# Altium footprint library PcbLib.PcbLib: 43 footprints (part 2 of 3)
Each footprint in its own frame and in the unit in brackets; x right, y up, seen from the top. Pads: shape width x height; smd on the part's side, far side on the other; paste and mask are expansions set on the pad; w line width, h text height; cw(c..) or ccw(c..) is an arc to the next point about the centre after c.
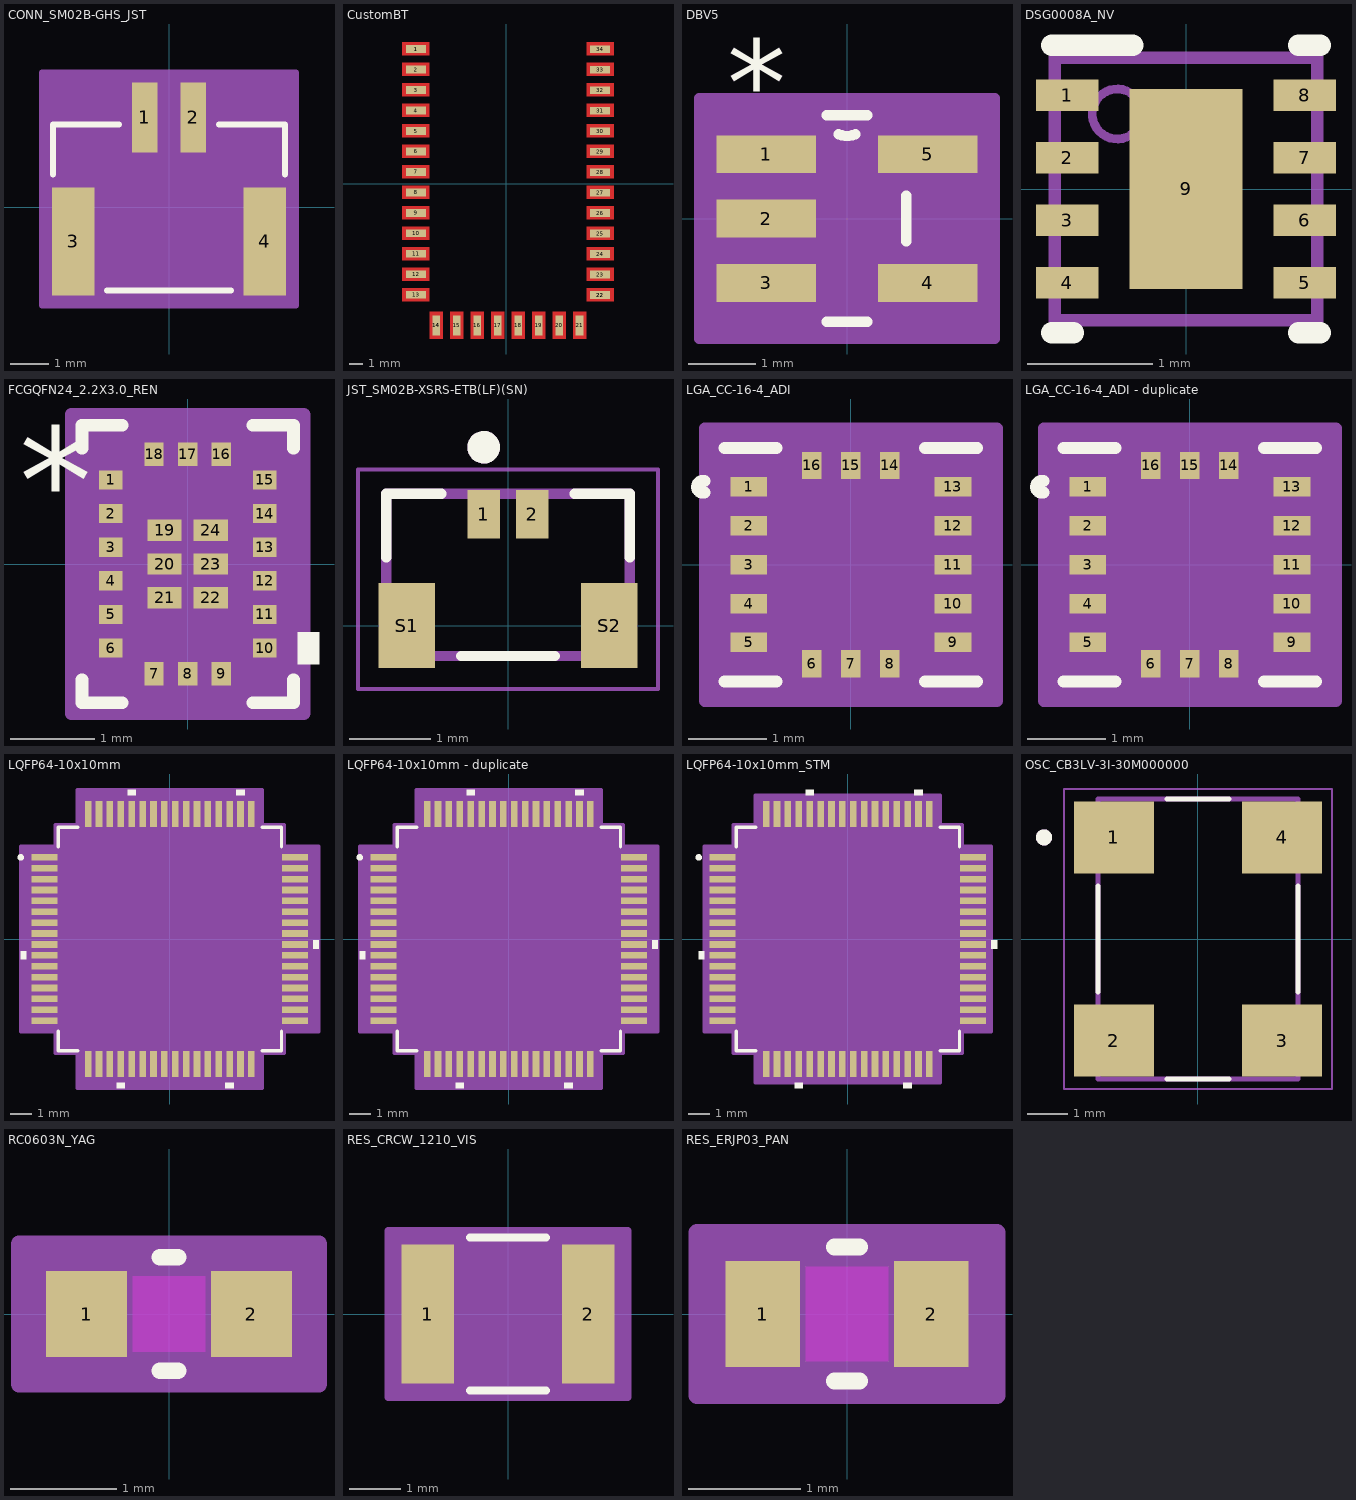
[diagram p1: the footprints below, top view; thin cyan lines are the x and y axes]

## CONN_SM02B-GHS_JST [mil]
pads (4):
  rect 26x71 smd paste+0 mask+0: 1(-24.61,91.5) 2(24.61,91.5)
  rect 43x110 smd paste+0 mask+0: 3(-97.44,-34.48) 4(97.44,-34.48)
Top Overlay:
  lines w6: -118,33.62 -118,84.5 -50.71,84.5 ; -62.84,-84.5 62.84,-84.5 ; 50.71,84.5 118,84.5 118,33.62
Mechanical 13:
  circle w20: c-24.61,16.5 r15
  lines w1: -113,-79.5 -113,79.5 113,79.5 113,-79.5 -113,-79.5
Mechanical 15:
  region: 128.94,137 -128.94,137 -128.94,-99.48 128.94,-99.48
  lines w6: -128.94,-99.48 128.94,-99.48 128.94,137 -128.94,137 -128.94,-99.48

## CustomBT [mil]
pads (37):
  rect 58x22 smd paste-99999 mask-29: 1(-259.45,388.19) 1(-259.45,388.19) 2(-259.45,329.13) 3(-259.45,270.08) 4(-259.45,211.02) 5(-259.45,151.97) 6(-259.45,92.91) 7(-259.45,33.86) 8(-259.45,-25.2) 9(-259.45,-84.25) 10(-259.45,-143.31) 11(-259.45,-202.36) 12(-259.45,-261.42) 13(-259.45,-320.47) 22(270.87,-321.26) 22(270.99,-320.82) 23(270.99,-261.77) 24(270.99,-202.71) 25(270.99,-143.66) 26(270.99,-84.6) 27(270.99,-25.54) 28(270.99,33.51) 29(270.99,92.57) 30(270.99,151.62) 31(270.99,210.68) 32(270.99,269.73) 33(270.99,328.79) 34(270.99,387.84)
  rect 22x58 smd paste-29 mask-29: 14(-201.57,-408.66) 14(-201.57,-408.66) 15(-142.52,-408.66) 16(-83.46,-408.66) 17(-24.41,-408.66) 18(34.65,-408.66) 19(93.7,-408.66) 20(152.76,-408.66) 21(211.81,-408.66)
Top Layer:
  rectangle: -299.61,-339.37 -220.87,-300
  rectangle: -220.87,-447.64 -181.5,-368.9
  rectangle: -161.81,-447.64 -122.44,-368.9
  rectangle: -102.76,-447.64 -63.39,-368.9
  rectangle: -43.7,-447.64 -4.33,-368.9
  rectangle: 15.35,-447.64 54.72,-368.9
  rectangle: 74.41,-447.64 113.78,-368.9
  rectangle: 133.46,-447.64 172.83,-368.9
  rectangle: 192.52,-447.64 231.89,-368.9
  rectangle: 231.89,-280.31 310.63,-240.94
  rectangle: 231.89,251.18 310.63,290.55
  rectangle: 231.89,192.13 310.63,231.5
  rectangle: 231.89,133.07 310.63,172.44
  rectangle: 231.89,-339.37 310.63,-300
  rectangle: 231.89,369.29 310.63,408.66
  rectangle: 231.89,310.24 310.63,349.61
  rectangle: 231.89,-103.15 310.63,-63.78
  rectangle: 231.89,-162.2 310.63,-122.83
  rectangle: 231.89,-221.26 310.63,-181.89
  rectangle: 231.89,74.02 310.63,113.39
  rectangle: 231.89,14.96 310.63,54.33
  rectangle: 231.89,-44.09 310.63,-4.72
  rectangle: -299.61,369.29 -220.87,408.66
  rectangle: -299.61,310.24 -220.87,349.61
  rectangle: -299.61,251.18 -220.87,290.55
  rectangle: -299.61,192.13 -220.87,231.5
  rectangle: -299.61,133.07 -220.87,172.44
  rectangle: -299.61,74.02 -220.87,113.39
  rectangle: -299.61,14.96 -220.87,54.33
  rectangle: -299.61,-44.09 -220.87,-4.72
  rectangle: -299.61,-103.15 -220.87,-63.78
  rectangle: -299.61,-162.2 -220.87,-122.83
  rectangle: -299.61,-221.26 -220.87,-181.89
  rectangle: -299.61,-280.31 -220.87,-240.94

## DBV5 [mil]
pads (5):
  rect 58x22 smd paste-29 mask-29: 1(-47,37.4) 2(-47,0) 3(-47,-37.4) 4(47,-37.4) 5(47,37.4)
Top Overlay:
  lines w6: -11.91,-60 11.91,-60 ; -11.91,60 11.91,60 ; -4.92,49.05 ccw(c0,60) 4.92,49.05 ; 34.5,-13.3 34.5,13.3
  text "*" at -69.5,54.4 h50
Mechanical 13:
  lines w0: -12,60 ccw(c0,60) 12,60
  lines w1: -59,-47.4 -34.5,-47.4 -34.5,-27.4 -59,-27.4 -59,-47.4 ; -59,-10 -34.5,-10 -34.5,10 -59,10 -59,-10 ; -59,27.4 -34.5,27.4 -34.5,47.4 -59,47.4 -59,27.4 ; -34.5,-60 -34.5,60 34.5,60 34.5,-60 -34.5,-60 ; 34.5,-47.4 59,-47.4 59,-27.4 34.5,-27.4 34.5,-47.4 ; 34.5,27.4 59,27.4 59,47.4 34.5,47.4 34.5,27.4
  text "*" at -69.5,54.4 h50
Mechanical 15:
  region: 86,-70 -86,-70 -86,70 86,70
  lines w6: -86,-70 86,-70 86,70 -86,70 -86,-70
3D body "DBV5.step": height 57.09, standoff 0, extent -59.02,-60 59.02,60

## DSG0008A_NV [mm]
pads (9):
  rect 0.5x0.25 smd paste+0 mask+0.051: 1(-0.95,0.75) 2(-0.95,0.25) 3(-0.95,-0.25) 4(-0.95,-0.75) 5(0.95,-0.75) 6(0.95,-0.25) 7(0.95,0.25) 8(0.95,0.75)
  rect 0.9x1.6 smd paste-0.45 mask+0.051: 9(0,0)
Top Overlay:
  lines w0.17: -1.075,-1.15 -0.9,-1.15 ; -1.075,1.15 -0.425,1.15 ; 0.9,-1.15 1.075,-1.15 ; 0.9,1.15 1.075,1.15
Top Paste:
  region: -0.449,-0.761 -0.45,-0.751 -0.45,-0.149 -0.449,-0.139 -0.446,-0.13 -0.442,-0.122 -0.436,-0.114 -0.428,-0.108 -0.42,-0.104 -0.411,-0.101 -0.401,-0.1 0.401,-0.1 0.411,-0.101 0.42,-0.104 0.428,-0.108 0.436,-0.114 0.442,-0.122 0.446,-0.13 0.449,-0.139 0.45,-0.149 0.45,-0.751 0.449,-0.761 0.446,-0.77 0.442,-0.778 0.436,-0.786 0.428,-0.792 0.42,-0.796 0.411,-0.799 0.401,-0.8 -0.401,-0.8 -0.411,-0.799 -0.42,-0.796 -0.428,-0.792 -0.436,-0.786 -0.442,-0.778 -0.446,-0.77
  region: -0.449,0.139 -0.45,0.149 -0.45,0.751 -0.449,0.761 -0.446,0.77 -0.442,0.778 -0.436,0.786 -0.428,0.792 -0.42,0.796 -0.411,0.799 -0.401,0.8 0.401,0.8 0.411,0.799 0.42,0.796 0.428,0.792 0.436,0.786 0.442,0.778 0.446,0.77 0.449,0.761 0.45,0.751 0.45,0.149 0.449,0.139 0.446,0.13 0.442,0.122 0.436,0.114 0.428,0.108 0.42,0.104 0.411,0.101 0.401,0.1 -0.401,0.1 -0.411,0.101 -0.42,0.104 -0.428,0.108 -0.436,0.114 -0.442,0.122 -0.446,0.13
Mechanical 13:
  circle w0.07: c-0.55,0.6 r0.2
  lines w0.1: -1.05,-1.05 1.05,-1.05 1.05,1.05 -1.05,1.05 -1.05,-1.05

## FCGQFN24_2.2X3.0_REN [mil]
pads (24):
  rect 11x9 smd paste+0 mask+0: 1(-36,39.37) 2(-36,23.62) 3(-36,7.87) 4(-36,-7.87) 5(-36,-23.62) 6(-36,-39.37) 10(36,-39.37) 11(36,-23.62) 12(36,-7.87) 13(36,7.87) 14(36,23.62) 15(36,39.37)
  rect 9x11 smd paste+0 mask+0: 7(-15.75,-51.5) 8(0,-51.5) 9(15.75,-51.5) 16(15.75,51.5) 17(0,51.5) 18(-15.75,51.5)
  rect 16x10 smd paste+0 mask+0: 19(-10.83,15.75) 20(-10.83,0) 21(-10.83,-15.75) 22(10.83,-15.75) 23(10.83,0) 24(10.83,15.75)
Top Overlay:
  region: 51.5,-31.87 61.5,-31.87 61.5,-46.87 51.5,-46.87
  lines w6: -49.5,-54.24 -49.5,-65 -30.62,-65 ; -49.5,54.24 -49.5,65 -30.62,65 ; 30.62,-65 49.5,-65 49.5,-54.24 ; 30.62,65 49.5,65 49.5,54.24
  text "*" at -79,14.37 h50
Mechanical 13:
  lines w1: -44.5,10 5.5,60 ; -44.5,-60 44.5,-60 44.5,60 -44.5,60 -44.5,-60 ; -44.5,-43.87 -44.5,-34.87 -41.5,-34.87 -41.5,-43.87 -44.5,-43.87 ; -44.5,-28.12 -44.5,-19.12 -41.5,-19.12 -41.5,-28.12 -44.5,-28.12 ; -44.5,-12.37 -44.5,-3.37 -41.5,-3.37 -41.5,-12.37 -44.5,-12.37 ; -44.5,3.37 -44.5,12.37 -41.5,12.37 -41.5,3.37 -44.5,3.37 ; -44.5,19.12 -44.5,28.12 -41.5,28.12 -41.5,19.12 -44.5,19.12 ; -44.5,34.87 -44.5,43.87 -41.5,43.87 -41.5,34.87 -44.5,34.87 ; -20.25,-60 -11.25,-60 -11.25,-57 -20.25,-57 -20.25,-60 ; -20.25,57 -11.25,57 -11.25,60 -20.25,60 -20.25,57 ; -4.5,-60 4.5,-60 4.5,-57 -4.5,-57 -4.5,-60 ; -4.5,57 4.5,57 4.5,60 -4.5,60 -4.5,57 ; 11.25,-60 20.25,-60 20.25,-57 11.25,-57 11.25,-60 ; 11.25,57 20.25,57 20.25,60 11.25,60 11.25,57 ; 41.5,-43.87 44.5,-43.87 44.5,-34.87 41.5,-34.87 41.5,-43.87 ; 41.5,-28.12 44.5,-28.12 44.5,-19.12 41.5,-19.12 41.5,-28.12 ; 41.5,-12.37 44.5,-12.37 44.5,-3.37 41.5,-3.37 41.5,-12.37 ; 41.5,3.37 44.5,3.37 44.5,12.37 41.5,12.37 41.5,3.37 ; 41.5,19.12 44.5,19.12 44.5,28.12 41.5,28.12 41.5,19.12 ; 41.5,34.87 44.5,34.87 44.5,43.87 41.5,43.87 41.5,34.87
  text "*" at -18,14.37 h50
Mechanical 15:
  region: -30.25,-70 -54.5,-70 -54.5,-53.87 -54.5,53.87 -54.5,70 -30.25,70 30.25,70 54.5,70 54.5,53.87 54.5,-53.87 54.5,-70 30.25,-70
  lines w6: -54.5,-70 -54.5,-53.87 -54.5,53.87 -54.5,70 -30.25,70 30.25,70 54.5,70 54.5,53.87 54.5,-53.87 54.5,-70 30.25,-70 -30.25,-70 -54.5,-70
3D body "FCGQFN24_22X30_REN.step": height 28.11, standoff 0, extent -44.49,-60 44.49,60

## JST_SM02B-XSRS-ETB(LF)(SN) [mm]
pads (4):
  rect 0.4x0.6 smd: 1(-0.3,1.375) 2(0.3,1.375)
  rect 0.7x1.05 smd: S1(-1.25,0) S2(1.25,0)
Top Overlay:
  circle w0.2: c-0.3,2.2 r0.1
  lines w0.127: -1.5,0.84 -1.5,1.625 -0.82,1.625 ; -0.58,-0.375 0.58,-0.375 ; 0.82,1.625 1.5,1.625 1.5,0.84
Mechanical 13:
  circle w0.2: c-0.3,2.2 r0.1
  lines w0.127: -1.5,-0.375 -1.5,1.625 1.5,1.625 1.5,-0.375 -1.5,-0.375
Mechanical 15:
  lines w0.05: -1.85,-0.78 -1.85,1.925 1.85,1.925 1.85,-0.78 -1.85,-0.78

## LGA_CC-16-4_ADI [mm]
pads (16):
  rect 0.475x0.25 smd paste+0 mask+0: 1(-1.313,1) 2(-1.313,0.5) 3(-1.313,0) 4(-1.313,-0.5) 5(-1.313,-1) 9(1.313,-1) 10(1.313,-0.5) 11(1.313,0) 12(1.313,0.5) 13(1.313,1)
  rect 0.25x0.35 smd paste+0 mask+0: 6(-0.5,-1.275) 7(0,-1.275) 8(0.5,-1.275) 14(0.5,1.275) 15(0,1.275) 16(-0.5,1.275)
Top Overlay:
  lines w0.152: -1.883,0.926 cw(c-1.902,1) -1.883,1.074 ; -1.625,-1.5 -0.954,-1.5 ; -1.625,1.5 -0.954,1.5 ; 0.954,-1.5 1.625,-1.5 ; 0.954,1.5 1.625,1.5
Mechanical 13:
  circle w0: c-1.902,1 r0.076
  lines w0: -0.271,1.5 ccw(c0,1.5) 0.271,1.5
  lines w0.025: -1.625,-1.5 -1.625,1.5 1.625,1.5 1.625,-1.5 -1.625,-1.5
Mechanical 15:
  region: 1.879,-1.754 -1.879,-1.754 -1.879,1.754 1.879,1.754
  lines w0.152: -1.879,-1.754 -1.879,1.754 1.879,1.754 1.879,-1.754 -1.879,-1.754
3D body "ADXL362BCCZ-RL7.step": height 1.14, standoff 0, extent -1.615,-1.53 1.635,1.47

## LGA_CC-16-4_ADI - duplicate [mm]
pads (16):
  rect 0.475x0.25 smd paste+0 mask+0: 1(-1.313,1) 2(-1.313,0.5) 3(-1.313,0) 4(-1.313,-0.5) 5(-1.313,-1) 9(1.313,-1) 10(1.313,-0.5) 11(1.313,0) 12(1.313,0.5) 13(1.313,1)
  rect 0.25x0.35 smd paste+0 mask+0: 6(-0.5,-1.275) 7(0,-1.275) 8(0.5,-1.275) 14(0.5,1.275) 15(0,1.275) 16(-0.5,1.275)
Top Overlay:
  lines w0.152: -1.883,0.926 cw(c-1.902,1) -1.883,1.074 ; -1.625,-1.5 -0.954,-1.5 ; -1.625,1.5 -0.954,1.5 ; 0.954,-1.5 1.625,-1.5 ; 0.954,1.5 1.625,1.5
Mechanical 13:
  circle w0: c-1.902,1 r0.076
  lines w0: -0.271,1.5 ccw(c0,1.5) 0.271,1.5
  lines w0.025: -1.625,-1.5 -1.625,1.5 1.625,1.5 1.625,-1.5 -1.625,-1.5
Mechanical 15:
  region: 1.879,-1.754 -1.879,-1.754 -1.879,1.754 1.879,1.754
  lines w0.152: -1.879,-1.754 -1.879,1.754 1.879,1.754 1.879,-1.754 -1.879,-1.754
3D body "ADXL362BCCZ-RL7.step": height 1.14, standoff 0, extent -1.605,-1.54 1.645,1.46

## LQFP64-10x10mm [mm]
pads (64):
  rect 1.194x0.305 smd paste+0 mask+0: 1(-5.75,3.75) 2(-5.75,3.25) 3(-5.75,2.75) 4(-5.75,2.25) 5(-5.75,1.75) 6(-5.75,1.25) 7(-5.75,0.75) 8(-5.75,0.25) 9(-5.75,-0.25) 10(-5.75,-0.75) 11(-5.75,-1.25) 12(-5.75,-1.75) 13(-5.75,-2.25) 14(-5.75,-2.75) 15(-5.75,-3.25) 16(-5.75,-3.75) 33(5.75,-3.75) 34(5.75,-3.25) 35(5.75,-2.75) 36(5.75,-2.25) 37(5.75,-1.75) 38(5.75,-1.25) 39(5.75,-0.75) 40(5.75,-0.25) 41(5.75,0.25) 42(5.75,0.75) 43(5.75,1.25) 44(5.75,1.75) 45(5.75,2.25) 46(5.75,2.75) 47(5.75,3.25) 48(5.75,3.75)
  rect 0.305x1.194 smd paste+0 mask+0: 17(-3.75,-5.75) 18(-3.25,-5.75) 19(-2.75,-5.75) 20(-2.25,-5.75) 21(-1.75,-5.75) 22(-1.25,-5.75) 23(-0.75,-5.75) 24(-0.25,-5.75) 25(0.25,-5.75) 26(0.75,-5.75) 27(1.25,-5.75) 28(1.75,-5.75) 29(2.25,-5.75) 30(2.75,-5.75) 31(3.25,-5.75) 32(3.75,-5.75) 49(3.75,5.75) 50(3.25,5.75) 51(2.75,5.75) 52(2.25,5.75) 53(1.75,5.75) 54(1.25,5.75) 55(0.75,5.75) 56(0.25,5.75) 57(-0.25,5.75) 58(-0.75,5.75) 59(-1.25,5.75) 60(-1.75,5.75) 61(-2.25,5.75) 62(-2.75,5.75) 63(-3.25,5.75) 64(-3.75,5.75)
Top Overlay:
  circle w0.152: c-6.851,3.75 r0.076
  region: -1.559,6.601 -1.94,6.601 -1.94,6.855 -1.559,6.855
  region: 3.441,6.601 3.06,6.601 3.06,6.855 3.441,6.855
  region: 6.601,-0.059 6.855,-0.059 6.855,-0.44 6.601,-0.44
  region: 2.94,-6.601 2.559,-6.601 2.559,-6.855 2.94,-6.855
  region: -2.06,-6.601 -2.441,-6.601 -2.441,-6.855 -2.06,-6.855
  region: -6.601,-0.56 -6.855,-0.56 -6.855,-0.941 -6.601,-0.941
  lines w0.152: -5.131,-4.234 -5.131,-5.131 -4.234,-5.131 ; -5.131,4.234 -5.131,5.131 -4.234,5.131 ; 4.234,-5.131 5.131,-5.131 5.131,-4.234 ; 4.234,5.131 5.131,5.131 5.131,4.234
Mechanical 13:
  circle w0: c-4.518,3.75 r0.076
  lines w0.025: -5.004,3.734 -3.734,5.004 ; -5.004,-5.004 -5.004,5.004 5.004,5.004 5.004,-5.004 -5.004,-5.004
Mechanical 15:
  region: -4.258,-5.258 -5.258,-5.258 -5.258,-4.258 -6.855,-4.258 -6.855,4.258 -5.258,4.258 -5.258,5.258 -4.258,5.258 -4.258,6.855 4.258,6.855 4.258,5.258 5.258,5.258 5.258,4.258 6.855,4.258 6.855,-4.258 5.258,-4.258 5.258,-5.258 4.258,-5.258 4.258,-6.855 -4.258,-6.855
  lines w0.152: -6.855,-4.258 -6.855,4.258 -5.258,4.258 -5.258,5.258 -4.258,5.258 -4.258,6.855 4.258,6.855 4.258,5.258 5.258,5.258 5.258,4.258 6.855,4.258 6.855,-4.258 5.258,-4.258 5.258,-5.258 4.258,-5.258 4.258,-6.855 -4.258,-6.855 -4.258,-5.258 -5.258,-5.258 -5.258,-4.258 -6.855,-4.258
3D body "LQFP64-10x10mm.step": height 1.6, standoff 0, extent -5.997,-5.997 5.997,5.997

## LQFP64-10x10mm - duplicate [mm]
pads (64):
  rect 1.194x0.305 smd paste+0 mask+0: 1(-5.75,3.75) 2(-5.75,3.25) 3(-5.75,2.75) 4(-5.75,2.25) 5(-5.75,1.75) 6(-5.75,1.25) 7(-5.75,0.75) 8(-5.75,0.25) 9(-5.75,-0.25) 10(-5.75,-0.75) 11(-5.75,-1.25) 12(-5.75,-1.75) 13(-5.75,-2.25) 14(-5.75,-2.75) 15(-5.75,-3.25) 16(-5.75,-3.75) 33(5.75,-3.75) 34(5.75,-3.25) 35(5.75,-2.75) 36(5.75,-2.25) 37(5.75,-1.75) 38(5.75,-1.25) 39(5.75,-0.75) 40(5.75,-0.25) 41(5.75,0.25) 42(5.75,0.75) 43(5.75,1.25) 44(5.75,1.75) 45(5.75,2.25) 46(5.75,2.75) 47(5.75,3.25) 48(5.75,3.75)
  rect 0.305x1.194 smd paste+0 mask+0: 17(-3.75,-5.75) 18(-3.25,-5.75) 19(-2.75,-5.75) 20(-2.25,-5.75) 21(-1.75,-5.75) 22(-1.25,-5.75) 23(-0.75,-5.75) 24(-0.25,-5.75) 25(0.25,-5.75) 26(0.75,-5.75) 27(1.25,-5.75) 28(1.75,-5.75) 29(2.25,-5.75) 30(2.75,-5.75) 31(3.25,-5.75) 32(3.75,-5.75) 49(3.75,5.75) 50(3.25,5.75) 51(2.75,5.75) 52(2.25,5.75) 53(1.75,5.75) 54(1.25,5.75) 55(0.75,5.75) 56(0.25,5.75) 57(-0.25,5.75) 58(-0.75,5.75) 59(-1.25,5.75) 60(-1.75,5.75) 61(-2.25,5.75) 62(-2.75,5.75) 63(-3.25,5.75) 64(-3.75,5.75)
Top Overlay:
  circle w0.152: c-6.851,3.75 r0.076
  region: -6.601,-0.56 -6.855,-0.56 -6.855,-0.941 -6.601,-0.941
  region: -2.06,-6.601 -2.441,-6.601 -2.441,-6.855 -2.06,-6.855
  region: 2.94,-6.601 2.559,-6.601 2.559,-6.855 2.94,-6.855
  region: 6.601,-0.059 6.855,-0.059 6.855,-0.44 6.601,-0.44
  region: 3.441,6.601 3.06,6.601 3.06,6.855 3.441,6.855
  region: -1.559,6.601 -1.94,6.601 -1.94,6.855 -1.559,6.855
  lines w0.152: -5.131,-4.234 -5.131,-5.131 -4.234,-5.131 ; -5.131,4.234 -5.131,5.131 -4.234,5.131 ; 4.234,-5.131 5.131,-5.131 5.131,-4.234 ; 4.234,5.131 5.131,5.131 5.131,4.234
Mechanical 13:
  circle w0: c-4.518,3.75 r0.076
  lines w0.025: -5.004,3.734 -3.734,5.004 ; -5.004,-5.004 5.004,-5.004 5.004,5.004 -5.004,5.004 -5.004,-5.004
Mechanical 15:
  region: -4.258,-5.258 -5.258,-5.258 -5.258,-4.258 -6.855,-4.258 -6.855,4.258 -5.258,4.258 -5.258,5.258 -4.258,5.258 -4.258,6.855 4.258,6.855 4.258,5.258 5.258,5.258 5.258,4.258 6.855,4.258 6.855,-4.258 5.258,-4.258 5.258,-5.258 4.258,-5.258 4.258,-6.855 -4.258,-6.855
  lines w0.152: -6.855,-4.258 -5.258,-4.258 -5.258,-5.258 -4.258,-5.258 -4.258,-6.855 4.258,-6.855 4.258,-5.258 5.258,-5.258 5.258,-4.258 6.855,-4.258 6.855,4.258 5.258,4.258 5.258,5.258 4.258,5.258 4.258,6.855 -4.258,6.855 -4.258,5.258 -5.258,5.258 -5.258,4.258 -6.855,4.258 -6.855,-4.258
3D body "LQFP64-10x10mm.step": height 1.6, standoff 0, extent -5.997,-5.997 5.997,5.997

## LQFP64-10x10mm_STM [mm]
pads (64):
  rect 1.194x0.305 smd paste+0 mask+0: 1(-5.75,3.75) 2(-5.75,3.25) 3(-5.75,2.75) 4(-5.75,2.25) 5(-5.75,1.75) 6(-5.75,1.25) 7(-5.75,0.75) 8(-5.75,0.25) 9(-5.75,-0.25) 10(-5.75,-0.75) 11(-5.75,-1.25) 12(-5.75,-1.75) 13(-5.75,-2.25) 14(-5.75,-2.75) 15(-5.75,-3.25) 16(-5.75,-3.75) 33(5.75,-3.75) 34(5.75,-3.25) 35(5.75,-2.75) 36(5.75,-2.25) 37(5.75,-1.75) 38(5.75,-1.25) 39(5.75,-0.75) 40(5.75,-0.25) 41(5.75,0.25) 42(5.75,0.75) 43(5.75,1.25) 44(5.75,1.75) 45(5.75,2.25) 46(5.75,2.75) 47(5.75,3.25) 48(5.75,3.75)
  rect 0.305x1.194 smd paste+0 mask+0: 17(-3.75,-5.75) 18(-3.25,-5.75) 19(-2.75,-5.75) 20(-2.25,-5.75) 21(-1.75,-5.75) 22(-1.25,-5.75) 23(-0.75,-5.75) 24(-0.25,-5.75) 25(0.25,-5.75) 26(0.75,-5.75) 27(1.25,-5.75) 28(1.75,-5.75) 29(2.25,-5.75) 30(2.75,-5.75) 31(3.25,-5.75) 32(3.75,-5.75) 49(3.75,5.75) 50(3.25,5.75) 51(2.75,5.75) 52(2.25,5.75) 53(1.75,5.75) 54(1.25,5.75) 55(0.75,5.75) 56(0.25,5.75) 57(-0.25,5.75) 58(-0.75,5.75) 59(-1.25,5.75) 60(-1.75,5.75) 61(-2.25,5.75) 62(-2.75,5.75) 63(-3.25,5.75) 64(-3.75,5.75)
Top Overlay:
  circle w0.152: c-6.851,3.75 r0.076
  region: -1.559,6.601 -1.94,6.601 -1.94,6.855 -1.559,6.855
  region: 3.441,6.601 3.06,6.601 3.06,6.855 3.441,6.855
  region: 6.601,-0.059 6.855,-0.059 6.855,-0.44 6.601,-0.44
  region: 2.94,-6.601 2.559,-6.601 2.559,-6.855 2.94,-6.855
  region: -2.06,-6.601 -2.441,-6.601 -2.441,-6.855 -2.06,-6.855
  region: -6.601,-0.56 -6.855,-0.56 -6.855,-0.941 -6.601,-0.941
  lines w0.152: -5.131,-4.234 -5.131,-5.131 -4.234,-5.131 ; -5.131,4.234 -5.131,5.131 -4.234,5.131 ; 4.234,-5.131 5.131,-5.131 5.131,-4.234 ; 4.234,5.131 5.131,5.131 5.131,4.234
Mechanical 13:
  circle w0: c-4.518,3.75 r0.076
  lines w0.025: -5.004,3.734 -3.734,5.004 ; -5.004,-5.004 -5.004,5.004 5.004,5.004 5.004,-5.004 -5.004,-5.004
Mechanical 15:
  region: -4.258,-5.258 -5.258,-5.258 -5.258,-4.258 -6.601,-4.258 -6.601,4.258 -5.258,4.258 -5.258,5.258 -4.258,5.258 -4.258,6.601 4.258,6.601 4.258,5.258 5.258,5.258 5.258,4.258 6.601,4.258 6.601,-4.258 5.258,-4.258 5.258,-5.258 4.258,-5.258 4.258,-6.601 -4.258,-6.601
  lines w0.152: -6.601,-4.258 -6.601,4.258 -5.258,4.258 -5.258,5.258 -4.258,5.258 -4.258,6.601 4.258,6.601 4.258,5.258 5.258,5.258 5.258,4.258 6.601,4.258 6.601,-4.258 5.258,-4.258 5.258,-5.258 4.258,-5.258 4.258,-6.601 -4.258,-6.601 -4.258,-5.258 -5.258,-5.258 -5.258,-4.258 -6.601,-4.258
3D body "LQFP64-10x10mm_STM.step": height 1.6, standoff 0, extent -5.997,-5.997 5.997,5.997

## OSC_CB3LV-3I-30M000000 [mm]
height 1.8
pads (4):
  rect 2x1.8 smd: 1(-2.1,2.54) 2(-2.1,-2.54) 3(2.1,-2.54) 4(2.1,2.54)
Top Overlay:
  circle w0.2: c-3.85,2.54 r0.1
  lines w0.127: -2.5,-1.32 -2.5,1.32 ; -0.78,-3.5 0.78,-3.5 ; -0.78,3.5 0.78,3.5 ; 2.5,-1.32 2.5,1.32
Mechanical 13:
  circle w0.2: c-3.85,2.54 r0.1
  lines w0.127: -2.5,-3.5 2.5,-3.5 2.5,3.5 -2.5,3.5 -2.5,-3.5
Mechanical 15:
  lines w0.05: -3.35,-3.75 3.35,-3.75 3.35,3.75 -3.35,3.75 -3.35,-3.75

## PCBComponent_1 [mm]

## RC0603N_YAG [mil]
pads (2):
  rect 30x32 smd paste+0 mask+0: 1(-30.5,0) 2(30.5,0)
Top Layer keep-out:
  region: -13.5,-14 -13.5,14 13.5,14 13.5,-14
Top Overlay:
  lines w6: -3.39,-21 3.39,-21 ; -3.39,21 3.39,21
Mechanical 13:
  lines w1: -31.5,-16 -31.5,16 ; -31.5,-16 -15.5,-16 -15.5,16 -31.5,16 ; -31.5,-16 31.5,-16 ; -31.5,-16 -31.5,16 ; -31.5,16 31.5,16 ; 31.5,-16 15.5,-16 15.5,16 31.5,16 ; 31.5,-16 31.5,16 ; 31.5,-16 31.5,16
Mechanical 15:
  region: 55.5,-26 -55.5,-26 -55.5,26 55.5,26
  lines w6: -55.5,-26 -55.5,26 55.5,26 55.5,-26 -55.5,-26
3D body "RC0603N_YAG.step": height 27.99, standoff 0, extent -31.5,-15.98 31.5,15.98

## RES_CRCW_1210_VIS [mil]
pads (2):
  rect 40x106 smd paste+0 mask+0: 1(-61,0) 2(61,0)
Top Overlay:
  lines w6: -28.89,-58 28.89,-58 ; -28.89,58 28.89,58
Mechanical 13:
  lines w1: -67,-53 -67,53 ; -67,-53 67,-53 ; -67,-53 -41,-53 -41,53 -67,53 ; -67,-53 -67,53 ; -67,53 67,53 ; 67,-53 67,53 ; 67,-53 67,53 ; 67,-53 41,-53 41,53 67,53
Mechanical 15:
  region: 91,-63 -91,-63 -91,63 91,63
  lines w6: -91,-63 91,-63 91,63 -91,63 -91,-63
3D body "RES_CRCW_1210_VIS.step": height 24.02, standoff 0, extent -67.01,-52.99 67.01,52.99

## RES_ERJP03_PAN [mil]
pads (2):
  rect 26x37 smd paste+0 mask+0: 1(-29.5,0) 2(29.5,0)
Top Layer keep-out:
  region: -14.5,-16.5 -14.5,16.5 14.5,16.5 14.5,-16.5
Top Overlay:
  lines w6: -4.39,-23.5 4.39,-23.5 ; -4.39,23.5 4.39,23.5
Mechanical 13:
  lines w1: -34.5,-18.5 -34.5,18.5 ; -34.5,-18.5 -16.5,-18.5 -16.5,18.5 -34.5,18.5 ; -34.5,-18.5 34.5,-18.5 ; -34.5,-18.5 -34.5,18.5 ; -34.5,18.5 34.5,18.5 ; 34.5,-18.5 16.5,-18.5 16.5,18.5 34.5,18.5 ; 34.5,-18.5 34.5,18.5 ; 34.5,-18.5 34.5,18.5
Mechanical 15:
  region: 52.5,-28.5 -52.5,-28.5 -52.5,28.5 52.5,28.5
  lines w6: -52.5,-28.5 -52.5,28.5 52.5,28.5 52.5,-28.5 -52.5,-28.5
3D body "RES_ERJP03_PAN.step": height 22.01, standoff 0, extent -34.49,-18.5 34.49,18.5